# EAGLE library part 8-1415535-6 (library Relays)
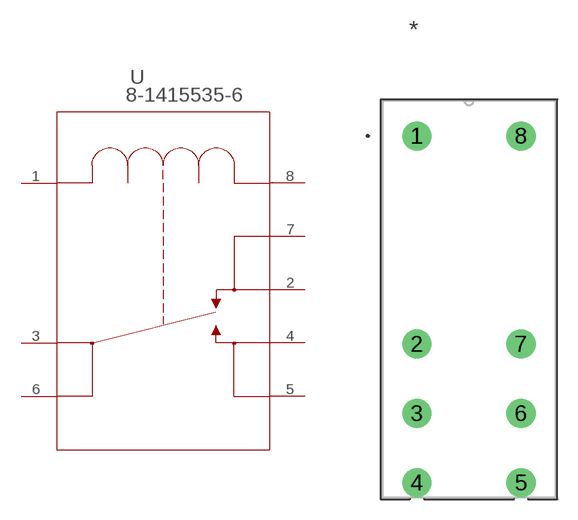
[diagram p58: symbol with the pads of RELAY_8-1415535-6; footprint RELAY_8-1415535-6]

Designator prefix U

## 8-1415535-6 (BUILT_BY: EMA_UL_Team; CATEGORY: Power Relays; COPYRIGHT: Copyright (C) 2016 Accelerated Designs. All rights reserved; DESCRIPTION: RT314012WG; MANUFACTURER_PART_NUMBER: 8-1415535-6; PART_STATUS: active; SERIES: SCHRACK Power PCB Relay RT1; VENDOR: TE Connectivity)  [RELAY_8-1415535-6]
1  1  pas
2  8  pas
3  2  pas
4  4  pas
5  5  pas
6  3  pas
7  7  pas
8  6  pas

## Footprint RELAY_8-1415535-6 (pad centres in mm)
drill 1.422 pad 1.93: 1 -7.62,23.927; 2 -7.62,8.687; 3 -7.62,3.607; 4 -7.62,-1.473; 5 0,-1.473; 6 0,3.607; 7 0,8.687; 8 0,23.927